# EAGLE library part 87368-48 (library untitled)
RECEPTACAL
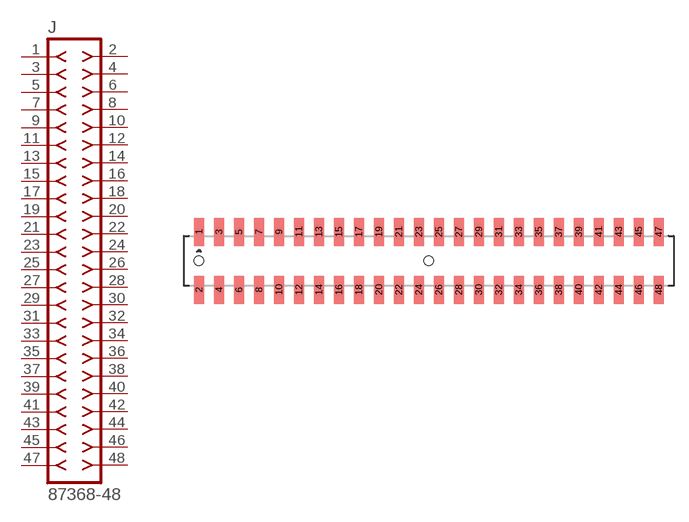
[diagram p203: symbol with the pads of 87368-48; footprint 87368-48]

Designator prefix J

## 87368-48  [87368-48]
1  1  pas
2  2  pas
3  3  pas
4  4  pas
5  5  pas
6  6  pas
7  7  pas
8  8  pas
9  9  pas
10  10  pas
11  11  pas
12  12  pas
13  13  pas
14  14  pas
15  15  pas
16  16  pas
17  17  pas
18  18  pas
19  19  pas
20  20  pas
21  21  pas
22  22  pas
23  23  pas
24  24  pas
25  25  pas
26  26  pas
27  27  pas
28  28  pas
29  29  pas
30  30  pas
31  31  pas
32  32  pas
33  33  pas
34  34  pas
35  35  pas
36  36  pas
37  37  pas
38  38  pas
39  39  pas
40  40  pas
41  41  pas
42  42  pas
43  43  pas
44  44  pas
45  45  pas
46  46  pas
47  47  pas
48  48  pas

## Footprint 87368-48 (pad centres in mm)
RECEPTACAL SMD Dual Row, Side Entry
smd 1 x 2.8: 1 -23,2.9; 2 -23,-2.9; 3 -21,2.9; 4 -21,-2.9; 5 -19,2.9; 6 -19,-2.9; 7 -17,2.9; 8 -17,-2.9; 9 -15,2.9; 10 -15,-2.9; 11 -13,2.9; 12 -13,-2.9; 13 -11,2.9; 14 -11,-2.9; 15 -9,2.9; 16 -9,-2.9; 17 -7,2.9; 18 -7,-2.9; 19 -5,2.9; 20 -5,-2.9; 21 -3,2.9; 22 -3,-2.9; 23 -1,2.9; 24 -1,-2.9; 25 1,2.9; 26 1,-2.9; 27 3,2.9; 28 3,-2.9; 29 5,2.9; 30 5,-2.9; 31 7,2.9; 32 7,-2.9; 33 9,2.9; 34 9,-2.9; 35 11,2.9; 36 11,-2.9; 37 13,2.9; 38 13,-2.9; 39 15,2.9; 40 15,-2.9; 41 17,2.9; 42 17,-2.9; 43 19,2.9; 44 19,-2.9; 45 21,2.9; 46 21,-2.9; 47 23,2.9; 48 23,-2.9
hole 0.914 at -23,0
hole 0.914 at 0,0